# Altium footprint library LibMain.PCBLIB: 68 footprints (part 5 of 5)
Each footprint in its own frame and in the unit in brackets; x right, y up, seen from the top. Pads: shape width x height; smd on the part's side, far side on the other; paste and mask are expansions set on the pad; w line width, h text height; cw(c..) or ccw(c..) is an arc to the next point about the centre after c.
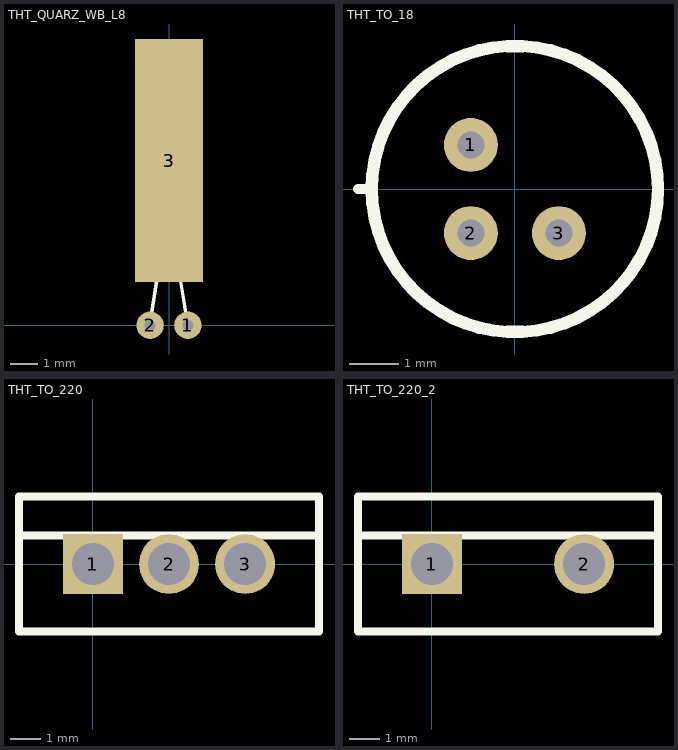
[diagram p4: the footprints below, top view; thin cyan lines are the x and y axes]

## THT_QUARZ_WB_L8 [mm]
pads (3):
  round 1.016 hole 0.4: 1(0.7,0) 2(-0.7,0)
  rect 2.5x9 smd: 3(0,6.1)
Top Overlay:
  lines w0.127: -0.71,0.007 -0.391,2.007 ; 0.371,2.007 0.69,0.007
  lines w0.2: -1.01,2.007 -1.01,6.507 -1.01,8.507 -1.01,10.325 0.99,10.325 0.99,8.507 0.99,2.007 -1.01,2.007

## THT_TO_18 [mm] "THT_TO_18"
height 5.33
pads (3):
  round 1.1 hole 0.55: 1(-0.898,0.898) 2(-0.898,-0.898) 3(0.898,-0.898)
Top Overlay:
  circle w0.254: c0,0 r2.92
  lines w0.2: -3.2,0 -2.9,0

## THT_TO_220 [mm] "THT_TO_220"
height 20
pads (3):
  rect 2x2 hole 1.4: 1(0,0)
  round 2 hole 1.4: 2(2.54,0) 3(5.08,0)
Top Overlay:
  lines w0.254: -2.46,0.95 7.54,0.95 ; -2.46,-2.25 7.54,-2.25 7.54,2.25 -2.46,2.25 -2.46,-2.25

## THT_TO_220_2 [mm] "THT_TO_220_2"
height 20
pads (2):
  rect 2x2 hole 1.4: 1(0,0)
  round 2 hole 1.4: 2(5.08,0)
Top Overlay:
  lines w0.254: -2.46,0.95 7.54,0.95 ; -2.46,-2.25 -2.46,2.25 7.54,2.25 7.54,-2.25 -2.46,-2.25